# Altium integrated library Linear Technology Power Management Switching Regulator LT1074-LT8705.IntLib: 2252 symbols (part 141 of 148)
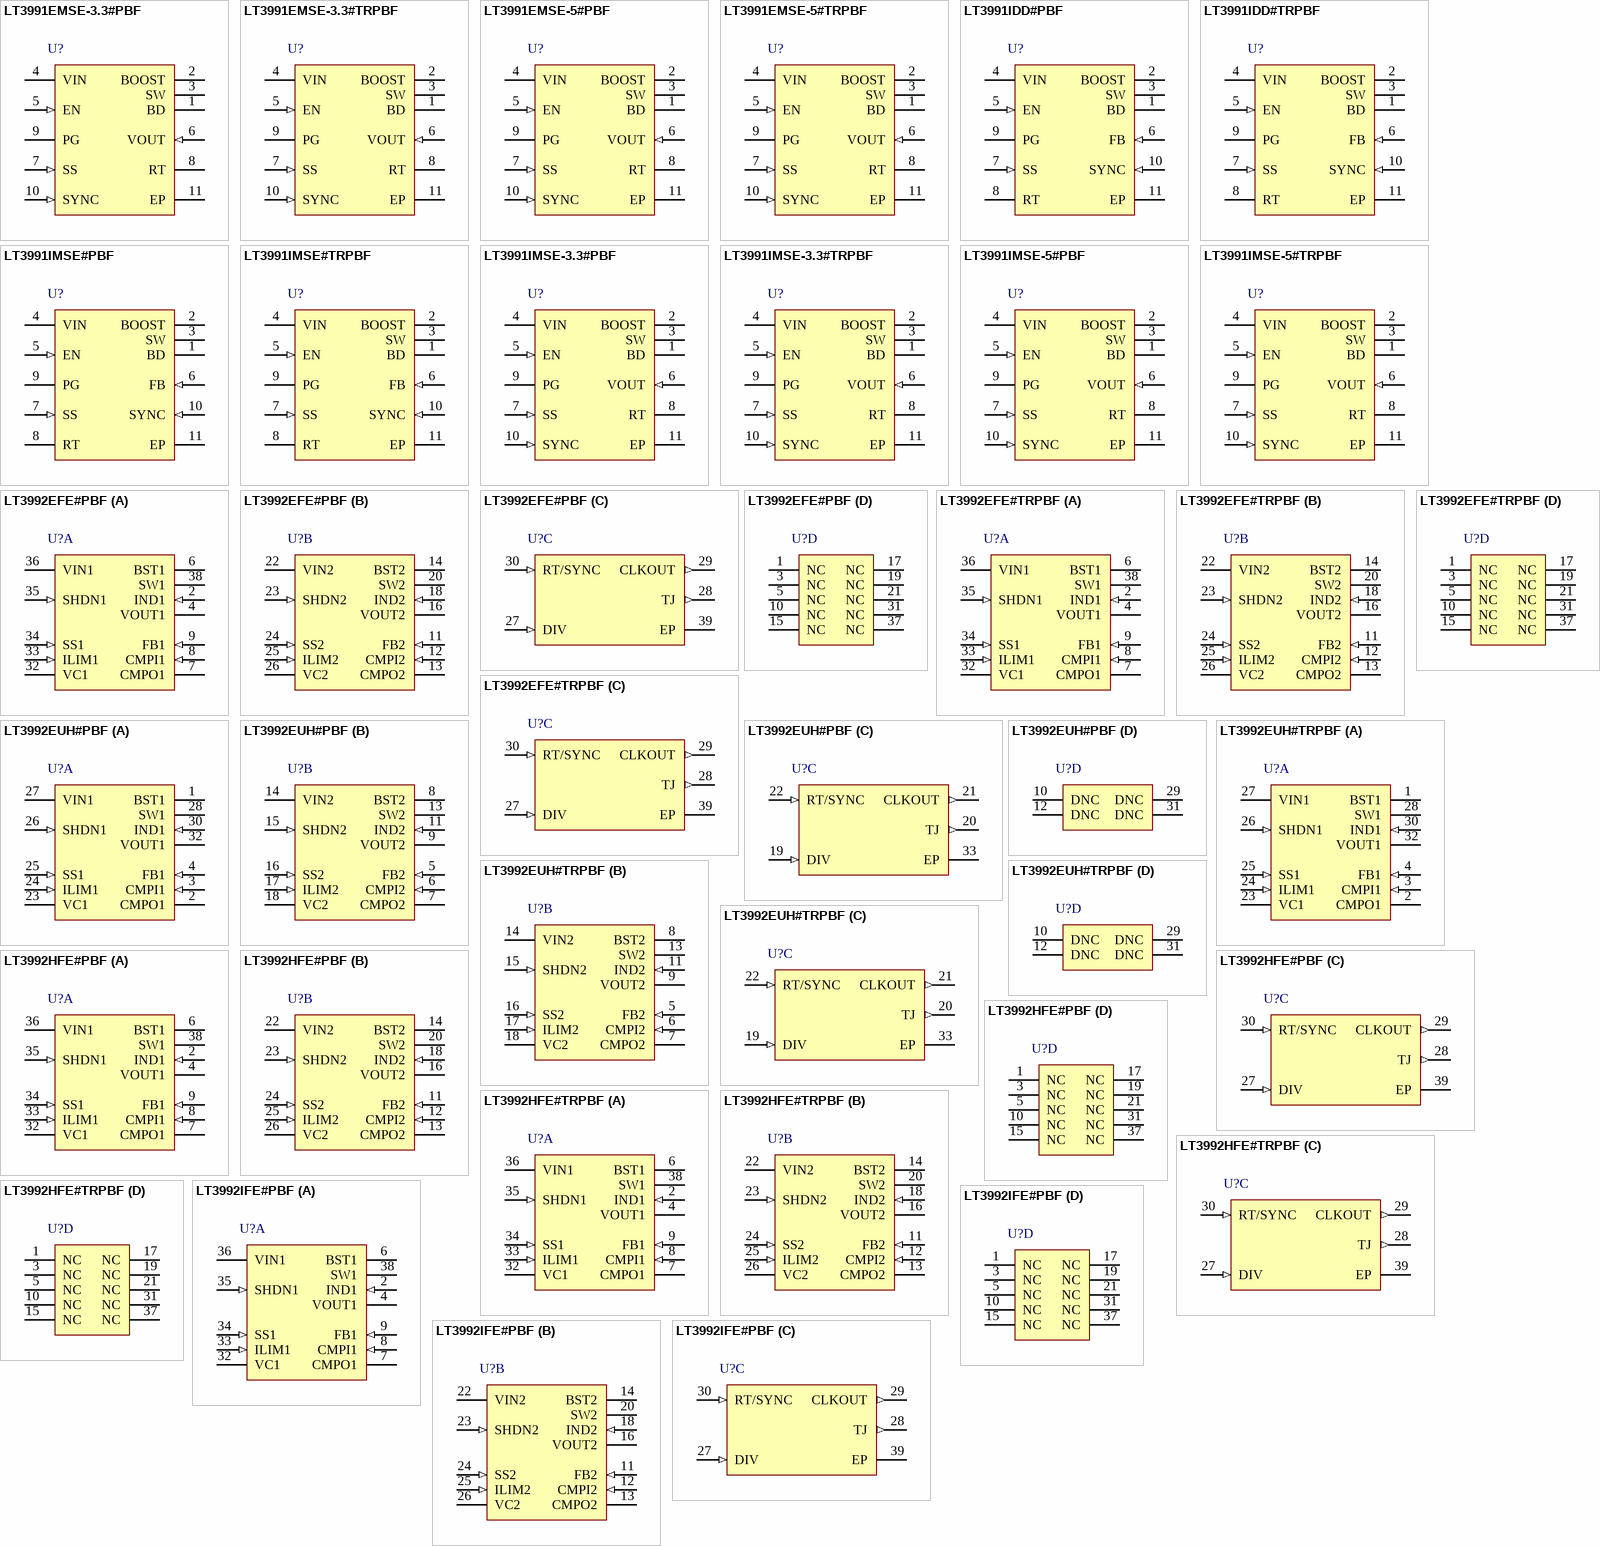
[diagram p211: symbols LT3991EMSE-3.3#PBF to LT3992IFE#PBF]

## LT3991EMSE-3.3#PBF
designator U?
1.2 A Step-Down Regulator with 2.8 uA Quiescent Current, 10-pin SOP (MSE-10-EDP), -40 to 125 degC, Pb-Free; Manufacturer: Linear Technology; PartNumber: LT3991EMSE-3.3#PBF; Frequency Adjust Range: 200kHz - 2MHz; Number of Outputs: 1; DatasheetVersion: Rev. A; PackageVersion: Rev. I, 05/2013; PackageReference: MSE-10; PackageDescription: 10-Pin Plastic MSOP, Exposed Die Pad, Body 3 x 3 mm, Pitch 0.5 mm; Supplier 1: Digi-Key; Supplier Part Number 1: LT3991EMSE-3.3#PBF-ND; Supplier 2: Farnell; Supplier Part Number 2: 1867530; Supplier 3: Newark; Supplier Part Number 3: 24T2758; RoHS: TRUE; Mounting Technology: Surface Mount; ComponentLink1Description: Manufacturer URL; ComponentLink1URL: http://www.linear.com/; ComponentLink2Description: Datasheet; ComponentLink2URL: http://cds.linear.com/docs/en/datasheet/3991fa.pdf; ComponentLink3Description: Package Specification; ComponentLink3URL: http://cds.linear.com/docs/en/packaging/05081664_I_MSE.pdf
footprint LT-MSE-10-EDP_N (SOP, 10-Leads, Body 3.1x3.1mm, Pitch 0.5mm, Thermal Pad 1.88x1.68mm, IPC Medium Density)
footprint LT-MSE-10-EDP_L (SOP, 10-Leads, Body 3.1x3.1mm, Pitch 0.5mm, Thermal Pad 1.88x1.68mm, IPC High Density)
footprint LT-MSE-10-EDP_M (SOP, 10-Leads, Body 3.1x3.1mm, Pitch 0.5mm, Thermal Pad 1.88x1.68mm, IPC Low Density)
pins: 1 BD (power) "This pin connects to the anode of the boost diode. The BD pin is normally connected to the output.", 2 BOOST "This pin is used to provide a drive voltage, higher than the input voltage, to the internal bipolar NPN power switch.", 3 SW (power) "The SW pin is the output of an internal power switch. Connect this pin to the inductor, catch diode, and boost capacitor.", 4 VIN (power) "The VIN pin supplies current to the LT3991’s internal circuitry and to the internal power switch. This pin must be locally bypassed.", 5 EN (in) "The part is in shutdown when this pin is low and active when this pin is high. The hysteretic threshold voltage is 1.005V going up and 0.975V going down. The EN threshold is only accurate when VIN is above 4.3V. If VIN is (See Datasheet)", 6 VOUT (in) "The LT3991- 3.3 and LT3991-5 regulate the VOUT pin to 3.3V and 5V respectively. This pin connects to the internal 10Mohm feedback divider that programs the fixed output voltage.", 7 SS (in) "A capacitor and a series resistor are tied between SS and ground to slowly ramp up the peak current limit of the LT3991 on start-up. The soft-start capacitor is only actively discharged when EN is low. The SS pin is released (See Datasheet)", 8 RT "A resistor is tied between RT and ground to set the switching frequency.", 9 PG (oc) "The PG pin is the open-drain output of an internal comparator. PGOOD remains low until the FB pin is within 9% of the final regulation voltage. PGOOD is valid when the LT3991 is enabled and VIN is above 4.3V", 10 SYNC (in) "This is the external clock synchronization input. Ground this pin for low ripple Burst Mode operation at low output loads. Tie to a clock source for synchronization, which will include pulse-skipping at low output loads. (See Datasheet)", 11 EP (power) "Ground. The exposed pad must be soldered to PCB."

## LT3991EMSE-3.3#TRPBF
designator U?
1.2 A Step-Down Regulator with 2.8 uA Quiescent Current, 10-pin SOP (MSE-10-EDP), -40 to 125 degC, Pb-Free, Tape and Reel; Manufacturer: Linear Technology; PartNumber: LT3991EMSE-3.3#TRPBF; Frequency Adjust Range: 200kHz - 2MHz; Number of Outputs: 1; DatasheetVersion: Rev. A; PackageVersion: Rev. I, 05/2013; PackageReference: MSE-10; PackageDescription: 10-Pin Plastic MSOP, Exposed Die Pad, Body 3 x 3 mm, Pitch 0.5 mm; Supplier 1: Digi-Key; Supplier Part Number 1: LT3991EMSE-3.3#TRPBF-ND; Packing: Tape and Reel; RoHS: TRUE; Mounting Technology: Surface Mount; ComponentLink1Description: Manufacturer URL; ComponentLink1URL: http://www.linear.com/; ComponentLink2Description: Datasheet; ComponentLink2URL: http://cds.linear.com/docs/en/datasheet/3991fa.pdf; ComponentLink3Description: Package Specification; ComponentLink3URL: http://cds.linear.com/docs/en/packaging/05081664_I_MSE.pdf
footprint LT-MSE-10-EDP_N (SOP, 10-Leads, Body 3.1x3.1mm, Pitch 0.5mm, Thermal Pad 1.88x1.68mm, IPC Medium Density)
footprint LT-MSE-10-EDP_L (SOP, 10-Leads, Body 3.1x3.1mm, Pitch 0.5mm, Thermal Pad 1.88x1.68mm, IPC High Density)
footprint LT-MSE-10-EDP_M (SOP, 10-Leads, Body 3.1x3.1mm, Pitch 0.5mm, Thermal Pad 1.88x1.68mm, IPC Low Density)
pins: 1 BD (power) "This pin connects to the anode of the boost diode. The BD pin is normally connected to the output.", 2 BOOST "This pin is used to provide a drive voltage, higher than the input voltage, to the internal bipolar NPN power switch.", 3 SW (power) "The SW pin is the output of an internal power switch. Connect this pin to the inductor, catch diode, and boost capacitor.", 4 VIN (power) "The VIN pin supplies current to the LT3991’s internal circuitry and to the internal power switch. This pin must be locally bypassed.", 5 EN (in) "The part is in shutdown when this pin is low and active when this pin is high. The hysteretic threshold voltage is 1.005V going up and 0.975V going down. The EN threshold is only accurate when VIN is above 4.3V. If VIN is (See Datasheet)", 6 VOUT (in) "The LT3991- 3.3 and LT3991-5 regulate the VOUT pin to 3.3V and 5V respectively. This pin connects to the internal 10Mohm feedback divider that programs the fixed output voltage.", 7 SS (in) "A capacitor and a series resistor are tied between SS and ground to slowly ramp up the peak current limit of the LT3991 on start-up. The soft-start capacitor is only actively discharged when EN is low. The SS pin is released (See Datasheet)", 8 RT "A resistor is tied between RT and ground to set the switching frequency.", 9 PG (oc) "The PG pin is the open-drain output of an internal comparator. PGOOD remains low until the FB pin is within 9% of the final regulation voltage. PGOOD is valid when the LT3991 is enabled and VIN is above 4.3V", 10 SYNC (in) "This is the external clock synchronization input. Ground this pin for low ripple Burst Mode operation at low output loads. Tie to a clock source for synchronization, which will include pulse-skipping at low output loads. (See Datasheet)", 11 EP (power) "Ground. The exposed pad must be soldered to PCB."

## LT3991EMSE-5#PBF
designator U?
1.2 A Step-Down Regulator with 2.8 uA Quiescent Current, 10-pin SOP (MSE-10-EDP), -40 to 125 degC, Pb-Free; Manufacturer: Linear Technology; PartNumber: LT3991EMSE-5#PBF; Frequency Adjust Range: 200kHz - 2MHz; Number of Outputs: 1; DatasheetVersion: Rev. A; PackageVersion: Rev. I, 05/2013; PackageReference: MSE-10; PackageDescription: 10-Pin Plastic MSOP, Exposed Die Pad, Body 3 x 3 mm, Pitch 0.5 mm; Supplier 1: Digi-Key; Supplier Part Number 1: LT3991EMSE-5#PBF-ND; Supplier 2: Farnell; Supplier Part Number 2: 2115867; Supplier 3: Newark; Supplier Part Number 3: 24T2759; RoHS: TRUE; Mounting Technology: Surface Mount; ComponentLink1Description: Manufacturer URL; ComponentLink1URL: http://www.linear.com/; ComponentLink2Description: Datasheet; ComponentLink2URL: http://cds.linear.com/docs/en/datasheet/3991fa.pdf; ComponentLink3Description: Package Specification; ComponentLink3URL: http://cds.linear.com/docs/en/packaging/05081664_I_MSE.pdf
footprint LT-MSE-10-EDP_N (SOP, 10-Leads, Body 3.1x3.1mm, Pitch 0.5mm, Thermal Pad 1.88x1.68mm, IPC Medium Density)
footprint LT-MSE-10-EDP_L (SOP, 10-Leads, Body 3.1x3.1mm, Pitch 0.5mm, Thermal Pad 1.88x1.68mm, IPC High Density)
footprint LT-MSE-10-EDP_M (SOP, 10-Leads, Body 3.1x3.1mm, Pitch 0.5mm, Thermal Pad 1.88x1.68mm, IPC Low Density)
pins: 1 BD (power) "This pin connects to the anode of the boost diode. The BD pin is normally connected to the output.", 2 BOOST "This pin is used to provide a drive voltage, higher than the input voltage, to the internal bipolar NPN power switch.", 3 SW (power) "The SW pin is the output of an internal power switch. Connect this pin to the inductor, catch diode, and boost capacitor.", 4 VIN (power) "The VIN pin supplies current to the LT3991’s internal circuitry and to the internal power switch. This pin must be locally bypassed.", 5 EN (in) "The part is in shutdown when this pin is low and active when this pin is high. The hysteretic threshold voltage is 1.005V going up and 0.975V going down. The EN threshold is only accurate when VIN is above 4.3V. If VIN is (See Datasheet)", 6 VOUT (in) "The LT3991- 3.3 and LT3991-5 regulate the VOUT pin to 3.3V and 5V respectively. This pin connects to the internal 10Mohm feedback divider that programs the fixed output voltage.", 7 SS (in) "A capacitor and a series resistor are tied between SS and ground to slowly ramp up the peak current limit of the LT3991 on start-up. The soft-start capacitor is only actively discharged when EN is low. The SS pin is released (See Datasheet)", 8 RT "A resistor is tied between RT and ground to set the switching frequency.", 9 PG (oc) "The PG pin is the open-drain output of an internal comparator. PGOOD remains low until the FB pin is within 9% of the final regulation voltage. PGOOD is valid when the LT3991 is enabled and VIN is above 4.3V", 10 SYNC (in) "This is the external clock synchronization input. Ground this pin for low ripple Burst Mode operation at low output loads. Tie to a clock source for synchronization, which will include pulse-skipping at low output loads. (See Datasheet)", 11 EP (power) "Ground. The exposed pad must be soldered to PCB."

## LT3991EMSE-5#TRPBF
designator U?
1.2 A Step-Down Regulator with 2.8 uA Quiescent Current, 10-pin SOP (MSE-10-EDP), -40 to 125 degC, Pb-Free, Tape and Reel; Manufacturer: Linear Technology; PartNumber: LT3991EMSE-5#TRPBF; Frequency Adjust Range: 200kHz - 2MHz; Number of Outputs: 1; DatasheetVersion: Rev. A; PackageVersion: Rev. I, 05/2013; PackageReference: MSE-10; PackageDescription: 10-Pin Plastic MSOP, Exposed Die Pad, Body 3 x 3 mm, Pitch 0.5 mm; Supplier 1: Digi-Key; Supplier Part Number 1: LT3991EMSE-5#TRPBF-ND; Packing: Tape and Reel; RoHS: TRUE; Mounting Technology: Surface Mount; ComponentLink1Description: Manufacturer URL; ComponentLink1URL: http://www.linear.com/; ComponentLink2Description: Datasheet; ComponentLink2URL: http://cds.linear.com/docs/en/datasheet/3991fa.pdf; ComponentLink3Description: Package Specification; ComponentLink3URL: http://cds.linear.com/docs/en/packaging/05081664_I_MSE.pdf
footprint LT-MSE-10-EDP_N (SOP, 10-Leads, Body 3.1x3.1mm, Pitch 0.5mm, Thermal Pad 1.88x1.68mm, IPC Medium Density)
footprint LT-MSE-10-EDP_L (SOP, 10-Leads, Body 3.1x3.1mm, Pitch 0.5mm, Thermal Pad 1.88x1.68mm, IPC High Density)
footprint LT-MSE-10-EDP_M (SOP, 10-Leads, Body 3.1x3.1mm, Pitch 0.5mm, Thermal Pad 1.88x1.68mm, IPC Low Density)
pins: 1 BD (power) "This pin connects to the anode of the boost diode. The BD pin is normally connected to the output.", 2 BOOST "This pin is used to provide a drive voltage, higher than the input voltage, to the internal bipolar NPN power switch.", 3 SW (power) "The SW pin is the output of an internal power switch. Connect this pin to the inductor, catch diode, and boost capacitor.", 4 VIN (power) "The VIN pin supplies current to the LT3991’s internal circuitry and to the internal power switch. This pin must be locally bypassed.", 5 EN (in) "The part is in shutdown when this pin is low and active when this pin is high. The hysteretic threshold voltage is 1.005V going up and 0.975V going down. The EN threshold is only accurate when VIN is above 4.3V. If VIN is (See Datasheet)", 6 VOUT (in) "The LT3991- 3.3 and LT3991-5 regulate the VOUT pin to 3.3V and 5V respectively. This pin connects to the internal 10Mohm feedback divider that programs the fixed output voltage.", 7 SS (in) "A capacitor and a series resistor are tied between SS and ground to slowly ramp up the peak current limit of the LT3991 on start-up. The soft-start capacitor is only actively discharged when EN is low. The SS pin is released (See Datasheet)", 8 RT "A resistor is tied between RT and ground to set the switching frequency.", 9 PG (oc) "The PG pin is the open-drain output of an internal comparator. PGOOD remains low until the FB pin is within 9% of the final regulation voltage. PGOOD is valid when the LT3991 is enabled and VIN is above 4.3V", 10 SYNC (in) "This is the external clock synchronization input. Ground this pin for low ripple Burst Mode operation at low output loads. Tie to a clock source for synchronization, which will include pulse-skipping at low output loads. (See Datasheet)", 11 EP (power) "Ground. The exposed pad must be soldered to PCB."

## LT3991IDD#PBF
designator U?
1.2 A Step-Down Regulator with 2.8 uA Quiescent Current, 10-pin SON (DD-10), -40 to 125 degC, Pb-Free; Manufacturer: Linear Technology; PartNumber: LT3991IDD#PBF; Frequency Adjust Range: 200kHz - 2MHz; Number of Outputs: 1; DatasheetVersion: Rev. A; PackageVersion: Rev. C, 06/2010; PackageReference: DD-10; PackageDescription: 10-Pin Plastic DFN, Body 3 x 3 mm, Pitch 0.5 mm; Supplier 1: Digi-Key; Supplier Part Number 1: LT3991IDD#PBF-ND; Supplier 2: Farnell; Supplier Part Number 2: 2294972; Supplier 3: Newark; Supplier Part Number 3: 13T8607; RoHS: TRUE; Mounting Technology: Surface Mount; Code_JEDEC: MO-229; ComponentLink1Description: Manufacturer URL; ComponentLink1URL: http://www.linear.com/; ComponentLink2Description: Datasheet; ComponentLink2URL: http://cds.linear.com/docs/en/datasheet/3991fa.pdf; ComponentLink3Description: Package Specification; ComponentLink3URL: http://cds.linear.com/docs/en/packaging/DFN_10_05-08-1699.pdf
footprint LT-DD-10_V (SON, 10-Leads, Body 3x3mm, Pitch 0.5mm, Thermal Pad 2.38x1.65mm)
pins: 1 BD (power) "This pin connects to the anode of the boost diode. The BD pin is normally connected to the output.", 2 BOOST "This pin is used to provide a drive voltage, higher than the input voltage, to the internal bipolar NPN power switch.", 3 SW (power) "The SW pin is the output of an internal power switch. Connect this pin to the inductor, catch diode, and boost capacitor.", 4 VIN (power), 5 EN (in), 6 FB (in), 7 SS (in), 8 RT "A resistor is tied between RT and ground to set the switching frequency.", 9 PG (oc), 10 SYNC (in) "This is the external clock synchronization input. Ground this pin for low ripple Burst Mode operation at low output loads. Tie to a clock source for synchronization, which will include pulse-skipping at low output loads. (See Datasheet)", 11 EP (power) "Ground. The exposed pad must be soldered to PCB."

## LT3991IDD#TRPBF
designator U?
1.2 A Step-Down Regulator with 2.8 uA Quiescent Current, 10-pin SON (DD-10), -40 to 125 degC, Pb-Free, Tape and Reel; Manufacturer: Linear Technology; PartNumber: LT3991IDD#TRPBF; Frequency Adjust Range: 200kHz - 2MHz; Number of Outputs: 1; DatasheetVersion: Rev. A; PackageVersion: Rev. C, 06/2010; PackageReference: DD-10; PackageDescription: 10-Pin Plastic DFN, Body 3 x 3 mm, Pitch 0.5 mm; Supplier 1: Digi-Key; Supplier Part Number 1: LT3991IDD#TRPBF-ND; Packing: Tape and Reel; RoHS: TRUE; Mounting Technology: Surface Mount; Code_JEDEC: MO-229; ComponentLink1Description: Manufacturer URL; ComponentLink1URL: http://www.linear.com/; ComponentLink2Description: Datasheet; ComponentLink2URL: http://cds.linear.com/docs/en/datasheet/3991fa.pdf; ComponentLink3Description: Package Specification; ComponentLink3URL: http://cds.linear.com/docs/en/packaging/DFN_10_05-08-1699.pdf
footprint LT-DD-10_V (SON, 10-Leads, Body 3x3mm, Pitch 0.5mm, Thermal Pad 2.38x1.65mm)
pins: 1 BD (power) "This pin connects to the anode of the boost diode. The BD pin is normally connected to the output.", 2 BOOST "This pin is used to provide a drive voltage, higher than the input voltage, to the internal bipolar NPN power switch.", 3 SW (power) "The SW pin is the output of an internal power switch. Connect this pin to the inductor, catch diode, and boost capacitor.", 4 VIN (power), 5 EN (in), 6 FB (in), 7 SS (in), 8 RT "A resistor is tied between RT and ground to set the switching frequency.", 9 PG (oc), 10 SYNC (in) "This is the external clock synchronization input. Ground this pin for low ripple Burst Mode operation at low output loads. Tie to a clock source for synchronization, which will include pulse-skipping at low output loads. (See Datasheet)", 11 EP (power) "Ground. The exposed pad must be soldered to PCB."

## LT3991IMSE#PBF
designator U?
1.2 A Step-Down Regulator with 2.8 uA Quiescent Current, 10-pin SOP (MSE-10-EDP), -40 to 125 degC, Pb-Free; Manufacturer: Linear Technology; PartNumber: LT3991IMSE#PBF; Frequency Adjust Range: 200kHz - 2MHz; Number of Outputs: 1; DatasheetVersion: Rev. A; PackageVersion: Rev. I, 05/2013; PackageReference: MSE-10; PackageDescription: 10-Pin Plastic MSOP, Exposed Die Pad, Body 3 x 3 mm, Pitch 0.5 mm; Supplier 1: Digi-Key; Supplier Part Number 1: LT3991IMSE#PBF-ND; Supplier 2: Newark; Supplier Part Number 2: 13T8609; RoHS: TRUE; Mounting Technology: Surface Mount; ComponentLink1Description: Manufacturer URL; ComponentLink1URL: http://www.linear.com/; ComponentLink2Description: Datasheet; ComponentLink2URL: http://cds.linear.com/docs/en/datasheet/3991fa.pdf; ComponentLink3Description: Package Specification; ComponentLink3URL: http://cds.linear.com/docs/en/packaging/05081664_I_MSE.pdf
footprint LT-MSE-10-EDP_N (SOP, 10-Leads, Body 3.1x3.1mm, Pitch 0.5mm, Thermal Pad 1.88x1.68mm, IPC Medium Density)
footprint LT-MSE-10-EDP_L (SOP, 10-Leads, Body 3.1x3.1mm, Pitch 0.5mm, Thermal Pad 1.88x1.68mm, IPC High Density)
footprint LT-MSE-10-EDP_M (SOP, 10-Leads, Body 3.1x3.1mm, Pitch 0.5mm, Thermal Pad 1.88x1.68mm, IPC Low Density)
pins: 1 BD (power) "This pin connects to the anode of the boost diode. The BD pin is normally connected to the output.", 2 BOOST "This pin is used to provide a drive voltage, higher than the input voltage, to the internal bipolar NPN power switch.", 3 SW (power) "The SW pin is the output of an internal power switch. Connect this pin to the inductor, catch diode, and boost capacitor.", 4 VIN (power), 5 EN (in), 6 FB (in), 7 SS (in), 8 RT "A resistor is tied between RT and ground to set the switching frequency.", 9 PG (oc), 10 SYNC (in) "This is the external clock synchronization input. Ground this pin for low ripple Burst Mode operation at low output loads. Tie to a clock source for synchronization, which will include pulse-skipping at low output loads. (See Datasheet)", 11 EP (power) "Ground. The exposed pad must be soldered to PCB."

## LT3991IMSE#TRPBF
designator U?
1.2 A Step-Down Regulator with 2.8 uA Quiescent Current, 10-pin SOP (MSE-10-EDP), -40 to 125 degC, Pb-Free, Tape and Reel; Manufacturer: Linear Technology; PartNumber: LT3991IMSE#TRPBF; Frequency Adjust Range: 200kHz - 2MHz; Number of Outputs: 1; DatasheetVersion: Rev. A; PackageVersion: Rev. I, 05/2013; PackageReference: MSE-10; PackageDescription: 10-Pin Plastic MSOP, Exposed Die Pad, Body 3 x 3 mm, Pitch 0.5 mm; Supplier 1: Digi-Key; Supplier Part Number 1: LT3991IMSE#TRPBF-ND; Packing: Tape and Reel; RoHS: TRUE; Mounting Technology: Surface Mount; ComponentLink1Description: Manufacturer URL; ComponentLink1URL: http://www.linear.com/; ComponentLink2Description: Datasheet; ComponentLink2URL: http://cds.linear.com/docs/en/datasheet/3991fa.pdf; ComponentLink3Description: Package Specification; ComponentLink3URL: http://cds.linear.com/docs/en/packaging/05081664_I_MSE.pdf
footprint LT-MSE-10-EDP_N (SOP, 10-Leads, Body 3.1x3.1mm, Pitch 0.5mm, Thermal Pad 1.88x1.68mm, IPC Medium Density)
footprint LT-MSE-10-EDP_L (SOP, 10-Leads, Body 3.1x3.1mm, Pitch 0.5mm, Thermal Pad 1.88x1.68mm, IPC High Density)
footprint LT-MSE-10-EDP_M (SOP, 10-Leads, Body 3.1x3.1mm, Pitch 0.5mm, Thermal Pad 1.88x1.68mm, IPC Low Density)
pins: 1 BD (power) "This pin connects to the anode of the boost diode. The BD pin is normally connected to the output.", 2 BOOST "This pin is used to provide a drive voltage, higher than the input voltage, to the internal bipolar NPN power switch.", 3 SW (power) "The SW pin is the output of an internal power switch. Connect this pin to the inductor, catch diode, and boost capacitor.", 4 VIN (power), 5 EN (in), 6 FB (in), 7 SS (in), 8 RT "A resistor is tied between RT and ground to set the switching frequency.", 9 PG (oc), 10 SYNC (in) "This is the external clock synchronization input. Ground this pin for low ripple Burst Mode operation at low output loads. Tie to a clock source for synchronization, which will include pulse-skipping at low output loads. (See Datasheet)", 11 EP (power) "Ground. The exposed pad must be soldered to PCB."

## LT3991IMSE-3.3#PBF
designator U?
1.2 A Step-Down Regulator with 2.8 uA Quiescent Current, 10-pin SOP (MSE-10-EDP), -40 to 125 degC, Pb-Free; Manufacturer: Linear Technology; PartNumber: LT3991IMSE-3.3#PBF; Frequency Adjust Range: 200kHz - 2MHz; Number of Outputs: 1; DatasheetVersion: Rev. A; PackageVersion: Rev. I, 05/2013; PackageReference: MSE-10; PackageDescription: 10-Pin Plastic MSOP, Exposed Die Pad, Body 3 x 3 mm, Pitch 0.5 mm; Supplier 1: Digi-Key; Supplier Part Number 1: LT3991IMSE-3.3#PBF-ND; Supplier 2: Newark; Supplier Part Number 2: 27T2131; RoHS: TRUE; Mounting Technology: Surface Mount; ComponentLink1Description: Manufacturer URL; ComponentLink1URL: http://www.linear.com/; ComponentLink2Description: Datasheet; ComponentLink2URL: http://cds.linear.com/docs/en/datasheet/3991fa.pdf; ComponentLink3Description: Package Specification; ComponentLink3URL: http://cds.linear.com/docs/en/packaging/05081664_I_MSE.pdf
footprint LT-MSE-10-EDP_N (SOP, 10-Leads, Body 3.1x3.1mm, Pitch 0.5mm, Thermal Pad 1.88x1.68mm, IPC Medium Density)
footprint LT-MSE-10-EDP_L (SOP, 10-Leads, Body 3.1x3.1mm, Pitch 0.5mm, Thermal Pad 1.88x1.68mm, IPC High Density)
footprint LT-MSE-10-EDP_M (SOP, 10-Leads, Body 3.1x3.1mm, Pitch 0.5mm, Thermal Pad 1.88x1.68mm, IPC Low Density)
pins: 1 BD (power) "This pin connects to the anode of the boost diode. The BD pin is normally connected to the output.", 2 BOOST "This pin is used to provide a drive voltage, higher than the input voltage, to the internal bipolar NPN power switch.", 3 SW (power) "The SW pin is the output of an internal power switch. Connect this pin to the inductor, catch diode, and boost capacitor.", 4 VIN (power) "The VIN pin supplies current to the LT3991’s internal circuitry and to the internal power switch. This pin must be locally bypassed.", 5 EN (in) "The part is in shutdown when this pin is low and active when this pin is high. The hysteretic threshold voltage is 1.005V going up and 0.975V going down. The EN threshold is only accurate when VIN is above 4.3V. If VIN is (See Datasheet)", 6 VOUT (in) "The LT3991- 3.3 and LT3991-5 regulate the VOUT pin to 3.3V and 5V respectively. This pin connects to the internal 10Mohm feedback divider that programs the fixed output voltage.", 7 SS (in) "A capacitor and a series resistor are tied between SS and ground to slowly ramp up the peak current limit of the LT3991 on start-up. The soft-start capacitor is only actively discharged when EN is low. The SS pin is released (See Datasheet)", 8 RT "A resistor is tied between RT and ground to set the switching frequency.", 9 PG (oc) "The PG pin is the open-drain output of an internal comparator. PGOOD remains low until the FB pin is within 9% of the final regulation voltage. PGOOD is valid when the LT3991 is enabled and VIN is above 4.3V", 10 SYNC (in) "This is the external clock synchronization input. Ground this pin for low ripple Burst Mode operation at low output loads. Tie to a clock source for synchronization, which will include pulse-skipping at low output loads. (See Datasheet)", 11 EP (power) "Ground. The exposed pad must be soldered to PCB."

## LT3991IMSE-3.3#TRPBF
designator U?
1.2 A Step-Down Regulator with 2.8 uA Quiescent Current, 10-pin SOP (MSE-10-EDP), -40 to 125 degC, Pb-Free, Tape and Reel; Manufacturer: Linear Technology; PartNumber: LT3991IMSE-3.3#TRPBF; Frequency Adjust Range: 200kHz - 2MHz; Number of Outputs: 1; DatasheetVersion: Rev. A; PackageVersion: Rev. I, 05/2013; PackageReference: MSE-10; PackageDescription: 10-Pin Plastic MSOP, Exposed Die Pad, Body 3 x 3 mm, Pitch 0.5 mm; Supplier 1: Digi-Key; Supplier Part Number 1: LT3991IMSE-3.3#TRPBF-ND; Supplier 2: Newark; Supplier Part Number 2: 59T5845; Packing: Tape and Reel; RoHS: TRUE; Mounting Technology: Surface Mount; ComponentLink1Description: Manufacturer URL; ComponentLink1URL: http://www.linear.com/; ComponentLink2Description: Datasheet; ComponentLink2URL: http://cds.linear.com/docs/en/datasheet/3991fa.pdf; ComponentLink3Description: Package Specification; ComponentLink3URL: http://cds.linear.com/docs/en/packaging/05081664_I_MSE.pdf
footprint LT-MSE-10-EDP_N (SOP, 10-Leads, Body 3.1x3.1mm, Pitch 0.5mm, Thermal Pad 1.88x1.68mm, IPC Medium Density)
footprint LT-MSE-10-EDP_L (SOP, 10-Leads, Body 3.1x3.1mm, Pitch 0.5mm, Thermal Pad 1.88x1.68mm, IPC High Density)
footprint LT-MSE-10-EDP_M (SOP, 10-Leads, Body 3.1x3.1mm, Pitch 0.5mm, Thermal Pad 1.88x1.68mm, IPC Low Density)
pins: 1 BD (power) "This pin connects to the anode of the boost diode. The BD pin is normally connected to the output.", 2 BOOST "This pin is used to provide a drive voltage, higher than the input voltage, to the internal bipolar NPN power switch.", 3 SW (power) "The SW pin is the output of an internal power switch. Connect this pin to the inductor, catch diode, and boost capacitor.", 4 VIN (power) "The VIN pin supplies current to the LT3991’s internal circuitry and to the internal power switch. This pin must be locally bypassed.", 5 EN (in) "The part is in shutdown when this pin is low and active when this pin is high. The hysteretic threshold voltage is 1.005V going up and 0.975V going down. The EN threshold is only accurate when VIN is above 4.3V. If VIN is (See Datasheet)", 6 VOUT (in) "The LT3991- 3.3 and LT3991-5 regulate the VOUT pin to 3.3V and 5V respectively. This pin connects to the internal 10Mohm feedback divider that programs the fixed output voltage.", 7 SS (in) "A capacitor and a series resistor are tied between SS and ground to slowly ramp up the peak current limit of the LT3991 on start-up. The soft-start capacitor is only actively discharged when EN is low. The SS pin is released (See Datasheet)", 8 RT "A resistor is tied between RT and ground to set the switching frequency.", 9 PG (oc) "The PG pin is the open-drain output of an internal comparator. PGOOD remains low until the FB pin is within 9% of the final regulation voltage. PGOOD is valid when the LT3991 is enabled and VIN is above 4.3V", 10 SYNC (in) "This is the external clock synchronization input. Ground this pin for low ripple Burst Mode operation at low output loads. Tie to a clock source for synchronization, which will include pulse-skipping at low output loads. (See Datasheet)", 11 EP (power) "Ground. The exposed pad must be soldered to PCB."

## LT3991IMSE-5#PBF
designator U?
1.2 A Step-Down Regulator with 2.8 uA Quiescent Current, 10-pin SOP (MSE-10-EDP), -40 to 125 degC, Pb-Free; Manufacturer: Linear Technology; PartNumber: LT3991IMSE-5#PBF; Frequency Adjust Range: 200kHz - 2MHz; Number of Outputs: 1; DatasheetVersion: Rev. A; PackageVersion: Rev. I, 05/2013; PackageReference: MSE-10; PackageDescription: 10-Pin Plastic MSOP, Exposed Die Pad, Body 3 x 3 mm, Pitch 0.5 mm; Supplier 1: Digi-Key; Supplier Part Number 1: LT3991IMSE-5#PBF-ND; Supplier 2: Newark; Supplier Part Number 2: 58T8393; RoHS: TRUE; Mounting Technology: Surface Mount; ComponentLink1Description: Manufacturer URL; ComponentLink1URL: http://www.linear.com/; ComponentLink2Description: Datasheet; ComponentLink2URL: http://cds.linear.com/docs/en/datasheet/3991fa.pdf; ComponentLink3Description: Package Specification; ComponentLink3URL: http://cds.linear.com/docs/en/packaging/05081664_I_MSE.pdf
footprint LT-MSE-10-EDP_N (SOP, 10-Leads, Body 3.1x3.1mm, Pitch 0.5mm, Thermal Pad 1.88x1.68mm, IPC Medium Density)
footprint LT-MSE-10-EDP_L (SOP, 10-Leads, Body 3.1x3.1mm, Pitch 0.5mm, Thermal Pad 1.88x1.68mm, IPC High Density)
footprint LT-MSE-10-EDP_M (SOP, 10-Leads, Body 3.1x3.1mm, Pitch 0.5mm, Thermal Pad 1.88x1.68mm, IPC Low Density)
pins: 1 BD (power) "This pin connects to the anode of the boost diode. The BD pin is normally connected to the output.", 2 BOOST "This pin is used to provide a drive voltage, higher than the input voltage, to the internal bipolar NPN power switch.", 3 SW (power) "The SW pin is the output of an internal power switch. Connect this pin to the inductor, catch diode, and boost capacitor.", 4 VIN (power) "The VIN pin supplies current to the LT3991’s internal circuitry and to the internal power switch. This pin must be locally bypassed.", 5 EN (in) "The part is in shutdown when this pin is low and active when this pin is high. The hysteretic threshold voltage is 1.005V going up and 0.975V going down. The EN threshold is only accurate when VIN is above 4.3V. If VIN is (See Datasheet)", 6 VOUT (in) "The LT3991- 3.3 and LT3991-5 regulate the VOUT pin to 3.3V and 5V respectively. This pin connects to the internal 10Mohm feedback divider that programs the fixed output voltage.", 7 SS (in) "A capacitor and a series resistor are tied between SS and ground to slowly ramp up the peak current limit of the LT3991 on start-up. The soft-start capacitor is only actively discharged when EN is low. The SS pin is released (See Datasheet)", 8 RT "A resistor is tied between RT and ground to set the switching frequency.", 9 PG (oc) "The PG pin is the open-drain output of an internal comparator. PGOOD remains low until the FB pin is within 9% of the final regulation voltage. PGOOD is valid when the LT3991 is enabled and VIN is above 4.3V", 10 SYNC (in) "This is the external clock synchronization input. Ground this pin for low ripple Burst Mode operation at low output loads. Tie to a clock source for synchronization, which will include pulse-skipping at low output loads. (See Datasheet)", 11 EP (power) "Ground. The exposed pad must be soldered to PCB."

## LT3991IMSE-5#TRPBF
designator U?
1.2 A Step-Down Regulator with 2.8 uA Quiescent Current, 10-pin SOP (MSE-10-EDP), -40 to 125 degC, Pb-Free, Tape and Reel; Manufacturer: Linear Technology; PartNumber: LT3991IMSE-5#TRPBF; Frequency Adjust Range: 200kHz - 2MHz; Number of Outputs: 1; DatasheetVersion: Rev. A; PackageVersion: Rev. I, 05/2013; PackageReference: MSE-10; PackageDescription: 10-Pin Plastic MSOP, Exposed Die Pad, Body 3 x 3 mm, Pitch 0.5 mm; Supplier 1: Digi-Key; Supplier Part Number 1: LT3991IMSE-5#TRPBF-ND; Supplier 2: Newark; Supplier Part Number 2: 59T5846; Packing: Tape and Reel; RoHS: TRUE; Mounting Technology: Surface Mount; ComponentLink1Description: Manufacturer URL; ComponentLink1URL: http://www.linear.com/; ComponentLink2Description: Datasheet; ComponentLink2URL: http://cds.linear.com/docs/en/datasheet/3991fa.pdf; ComponentLink3Description: Package Specification; ComponentLink3URL: http://cds.linear.com/docs/en/packaging/05081664_I_MSE.pdf
footprint LT-MSE-10-EDP_N (SOP, 10-Leads, Body 3.1x3.1mm, Pitch 0.5mm, Thermal Pad 1.88x1.68mm, IPC Medium Density)
footprint LT-MSE-10-EDP_L (SOP, 10-Leads, Body 3.1x3.1mm, Pitch 0.5mm, Thermal Pad 1.88x1.68mm, IPC High Density)
footprint LT-MSE-10-EDP_M (SOP, 10-Leads, Body 3.1x3.1mm, Pitch 0.5mm, Thermal Pad 1.88x1.68mm, IPC Low Density)
pins: 1 BD (power) "This pin connects to the anode of the boost diode. The BD pin is normally connected to the output.", 2 BOOST "This pin is used to provide a drive voltage, higher than the input voltage, to the internal bipolar NPN power switch.", 3 SW (power) "The SW pin is the output of an internal power switch. Connect this pin to the inductor, catch diode, and boost capacitor.", 4 VIN (power) "The VIN pin supplies current to the LT3991’s internal circuitry and to the internal power switch. This pin must be locally bypassed.", 5 EN (in) "The part is in shutdown when this pin is low and active when this pin is high. The hysteretic threshold voltage is 1.005V going up and 0.975V going down. The EN threshold is only accurate when VIN is above 4.3V. If VIN is (See Datasheet)", 6 VOUT (in) "The LT3991- 3.3 and LT3991-5 regulate the VOUT pin to 3.3V and 5V respectively. This pin connects to the internal 10Mohm feedback divider that programs the fixed output voltage.", 7 SS (in) "A capacitor and a series resistor are tied between SS and ground to slowly ramp up the peak current limit of the LT3991 on start-up. The soft-start capacitor is only actively discharged when EN is low. The SS pin is released (See Datasheet)", 8 RT "A resistor is tied between RT and ground to set the switching frequency.", 9 PG (oc) "The PG pin is the open-drain output of an internal comparator. PGOOD remains low until the FB pin is within 9% of the final regulation voltage. PGOOD is valid when the LT3991 is enabled and VIN is above 4.3V", 10 SYNC (in) "This is the external clock synchronization input. Ground this pin for low ripple Burst Mode operation at low output loads. Tie to a clock source for synchronization, which will include pulse-skipping at low output loads. (See Datasheet)", 11 EP (power) "Ground. The exposed pad must be soldered to PCB."

## LT3992EFE#PBF
designator U?
Monolithic Dual Tracking 3 A Step-Down Switching Regulator, 38-pin SOP (FE-38-EPV-AA), -40 to 125 degC, Pb-Free; Manufacturer: Linear Technology; PartNumber: LT3992EFE#PBF; Frequency Adjust Range: 250kHz - 2MHz; Number of Outputs: 2; DatasheetVersion: Rev. A; PackageVersion: Rev. C, 09/2010; PackageReference: FE-38; PackageDescription: 38-Pin Plastic TSSOP, Body 9.7 x 4.4 mm, Pitch 0.5 mm; Supplier 1: Digi-Key; Supplier Part Number 1: LT3992EFE#PBF-ND; Supplier 2: Newark; Supplier Part Number 2: 87T9245; RoHS: TRUE; Mounting Technology: Surface Mount; ComponentLink1Description: Manufacturer URL; ComponentLink1URL: http://www.linear.com/; ComponentLink2Description: Datasheet; ComponentLink2URL: http://cds.linear.com/docs/en/datasheet/3992fa.pdf; ComponentLink3Description: Package Specification; ComponentLink3URL: http://cds.linear.com/docs/en/packaging/TSSOP_38_05-08-1772.pdf
footprint LT-FE-38-EPV-AA_N (SOP, 38-Leads, Body 9.8x4.5mm, Pitch 0.5mm, Thermal Pad 4.75x2.74mm, IPC Medium Density)
footprint LT-FE-38-EPV-AA_L (SOP, 38-Leads, Body 9.8x4.5mm, Pitch 0.5mm, Thermal Pad 4.75x2.74mm, IPC High Density)
footprint LT-FE-38-EPV-AA_M (SOP, 38-Leads, Body 9.8x4.5mm, Pitch 0.5mm, Thermal Pad 4.75x2.74mm, IPC Low Density)
part A pins: 2 IND1 (in) "The IND pin is the input to the internal sense resistor that measures current flowing in the inductor. When the current in the resistor exceeds the current dictated by the VC pin, the SW latch is held in reset, disabling the (See Datasheet)", 4 VOUT1 (power) "The VOUT pin is the output to the internal sense resistor that measures current flowing in the inductor. When the current in the resistor exceeds the current dictated by the VC pin, the SW latch is held in reset disabling (See Datasheet)", 6 BST1 "The BST pin provides a higher than VIN base drive to the power NPN to ensure a low switch drop. If the voltage between the BST pin and the VIN pin is less than the voltage required to fully turn on the power NPN, the power (See Datasheet)", 7 CMPO1 (oc), 8 CMPI1 (in), 9 FB1 (in) "The FB pin is the negative input to the error amplifier. The output switches to regulate this pin to 806mV with respect to the exposed ground pad. Bias current flows out of the FB pin.", 32 VC1 "The VC pin is the output of the error amplifier and the input to the peak switch current comparator. It is normally used for frequency compensation, but can also be used as a current clamp or control loop override. If the (See Datasheet)", 33 ILIM1 (in), 34 SS1 (in) "Current flowing out the SS pin into an external capacitor defines the rise time of the output voltage. When the SS pin is lower than the 0.806V reference, the feedback is regulated to the SS voltage. When the SS pin exceeds (See Datasheet)", 35 SHDN1 (in), 36 VIN1 (power), 38 SW1 (power) "The SW pin is the emitter of the internal power NPN. At switch off, the inductor will drive this pin below ground with a high dV/dt. An external Schottky catch diode to ground, close to the SW pin and respective VIN (See Datasheet)"
part B pins: 11 FB2 (in) "The FB pin is the negative input to the error amplifier. The output switches to regulate this pin to 806mV with respect to the exposed ground pad. Bias current flows out of the FB pin.", 12 CMPI2 (in), 13 CMPO2 (oc), 14 BST2 "The BST pin provides a higher than VIN base drive to the power NPN to ensure a low switch drop. If the voltage between the BST pin and the VIN pin is less than the voltage required to fully turn on the power NPN, the power (See Datasheet)", 16 VOUT2 (power) "The VOUT pin is the output to the internal sense resistor that measures current flowing in the inductor. When the current in the resistor exceeds the current dictated by the VC pin, the SW latch is held in reset disabling (See Datasheet)", 18 IND2 (in) "The IND pin is the input to the internal sense resistor that measures current flowing in the inductor. When the current in the resistor exceeds the current dictated by the VC pin, the SW latch is held in reset, disabling the (See Datasheet)", 20 SW2 (power) "The SW pin is the emitter of the internal power NPN. At switch off, the inductor will drive this pin below ground with a high dV/dt. An external Schottky catch diode to ground, close to the SW pin and respective VIN (See Datasheet)", 22 VIN2 (power), 23 SHDN2 (in), 24 SS2 (in) "Current flowing out the SS pin into an external capacitor defines the rise time of the output voltage. When the SS pin is lower than the 0.806V reference, the feedback is regulated to the SS voltage. When the SS pin exceeds (See Datasheet)", 25 ILIM2 (in), 26 VC2 "The VC pin is the output of the error amplifier and the input to the peak switch current comparator. It is normally used for frequency compensation, but can also be used as a current clamp or control loop override. If the (See Datasheet)"
part C pins: 27 DIV (in) "The voltage present at the DIV pin determines the ratio of channel 1 frequency to the master clock frequency set by the RT/SYNC pin. The DIV pin is driven by an internal current source with a typical value of 12uA which (See Datasheet)", 28 TJ (out) "The TJ pin outputs a voltage proportional to junction temperature. The pin is 250mV for 25degreesC and has a slope of 10mV/degreesC. See the Applications Information section for more information.", 29 CLKOUT (out) "The CLKOUT pin generates a square wave of 0V to 2.5V which is synchronized to the internal oscillator. If the switching frequency is set by an external resistor the resultant clock duty cycle will be 50%. If the RT/SYNC pin (See Datasheet)", 30 RT/SYNC (in), 39 EP (power) "The exposed pad pin is the only ground connection for the device. The exposed pad should be soldered to a large copper area to reduce thermal resistance. The GND pin is common to both channels and also serves as small-signal (See Datasheet)"
part D pins: 1 NC, 3 NC, 5 NC, 10 NC, 15 NC, 17 NC, 19 NC, 21 NC, 31 NC, 37 NC

## LT3992EFE#TRPBF
designator U?
Monolithic Dual Tracking 3 A Step-Down Switching Regulator, 38-pin SOP (FE-38-EPV-AA), -40 to 125 degC, Pb-Free, Tape and Reel; Manufacturer: Linear Technology; PartNumber: LT3992EFE#TRPBF; Frequency Adjust Range: 250kHz - 2MHz; Number of Outputs: 2; DatasheetVersion: Rev. A; PackageVersion: Rev. C, 09/2010; PackageReference: FE-38; PackageDescription: 38-Pin Plastic TSSOP, Body 9.7 x 4.4 mm, Pitch 0.5 mm; Supplier 1: Digi-Key; Supplier Part Number 1: LT3992EFE#TRPBF-ND; Supplier 2: Newark; Supplier Part Number 2: 87T9246; Packing: Tape and Reel; RoHS: TRUE; Mounting Technology: Surface Mount; ComponentLink1Description: Manufacturer URL; ComponentLink1URL: http://www.linear.com/; ComponentLink2Description: Datasheet; ComponentLink2URL: http://cds.linear.com/docs/en/datasheet/3992fa.pdf; ComponentLink3Description: Package Specification; ComponentLink3URL: http://cds.linear.com/docs/en/packaging/TSSOP_38_05-08-1772.pdf
footprint LT-FE-38-EPV-AA_N (SOP, 38-Leads, Body 9.8x4.5mm, Pitch 0.5mm, Thermal Pad 4.75x2.74mm, IPC Medium Density)
footprint LT-FE-38-EPV-AA_L (SOP, 38-Leads, Body 9.8x4.5mm, Pitch 0.5mm, Thermal Pad 4.75x2.74mm, IPC High Density)
footprint LT-FE-38-EPV-AA_M (SOP, 38-Leads, Body 9.8x4.5mm, Pitch 0.5mm, Thermal Pad 4.75x2.74mm, IPC Low Density)
part A pins: 2 IND1 (in) "The IND pin is the input to the internal sense resistor that measures current flowing in the inductor. When the current in the resistor exceeds the current dictated by the VC pin, the SW latch is held in reset, disabling the (See Datasheet)", 4 VOUT1 (power) "The VOUT pin is the output to the internal sense resistor that measures current flowing in the inductor. When the current in the resistor exceeds the current dictated by the VC pin, the SW latch is held in reset disabling (See Datasheet)", 6 BST1 "The BST pin provides a higher than VIN base drive to the power NPN to ensure a low switch drop. If the voltage between the BST pin and the VIN pin is less than the voltage required to fully turn on the power NPN, the power (See Datasheet)", 7 CMPO1 (oc), 8 CMPI1 (in), 9 FB1 (in) "The FB pin is the negative input to the error amplifier. The output switches to regulate this pin to 806mV with respect to the exposed ground pad. Bias current flows out of the FB pin.", 32 VC1 "The VC pin is the output of the error amplifier and the input to the peak switch current comparator. It is normally used for frequency compensation, but can also be used as a current clamp or control loop override. If the (See Datasheet)", 33 ILIM1 (in), 34 SS1 (in) "Current flowing out the SS pin into an external capacitor defines the rise time of the output voltage. When the SS pin is lower than the 0.806V reference, the feedback is regulated to the SS voltage. When the SS pin exceeds (See Datasheet)", 35 SHDN1 (in), 36 VIN1 (power), 38 SW1 (power) "The SW pin is the emitter of the internal power NPN. At switch off, the inductor will drive this pin below ground with a high dV/dt. An external Schottky catch diode to ground, close to the SW pin and respective VIN (See Datasheet)"
part B pins: 11 FB2 (in) "The FB pin is the negative input to the error amplifier. The output switches to regulate this pin to 806mV with respect to the exposed ground pad. Bias current flows out of the FB pin.", 12 CMPI2 (in), 13 CMPO2 (oc), 14 BST2 "The BST pin provides a higher than VIN base drive to the power NPN to ensure a low switch drop. If the voltage between the BST pin and the VIN pin is less than the voltage required to fully turn on the power NPN, the power (See Datasheet)", 16 VOUT2 (power) "The VOUT pin is the output to the internal sense resistor that measures current flowing in the inductor. When the current in the resistor exceeds the current dictated by the VC pin, the SW latch is held in reset disabling (See Datasheet)", 18 IND2 (in) "The IND pin is the input to the internal sense resistor that measures current flowing in the inductor. When the current in the resistor exceeds the current dictated by the VC pin, the SW latch is held in reset, disabling the (See Datasheet)", 20 SW2 (power) "The SW pin is the emitter of the internal power NPN. At switch off, the inductor will drive this pin below ground with a high dV/dt. An external Schottky catch diode to ground, close to the SW pin and respective VIN (See Datasheet)", 22 VIN2 (power), 23 SHDN2 (in), 24 SS2 (in) "Current flowing out the SS pin into an external capacitor defines the rise time of the output voltage. When the SS pin is lower than the 0.806V reference, the feedback is regulated to the SS voltage. When the SS pin exceeds (See Datasheet)", 25 ILIM2 (in), 26 VC2 "The VC pin is the output of the error amplifier and the input to the peak switch current comparator. It is normally used for frequency compensation, but can also be used as a current clamp or control loop override. If the (See Datasheet)"
part C pins: 27 DIV (in) "The voltage present at the DIV pin determines the ratio of channel 1 frequency to the master clock frequency set by the RT/SYNC pin. The DIV pin is driven by an internal current source with a typical value of 12uA which (See Datasheet)", 28 TJ (out) "The TJ pin outputs a voltage proportional to junction temperature. The pin is 250mV for 25degreesC and has a slope of 10mV/degreesC. See the Applications Information section for more information.", 29 CLKOUT (out) "The CLKOUT pin generates a square wave of 0V to 2.5V which is synchronized to the internal oscillator. If the switching frequency is set by an external resistor the resultant clock duty cycle will be 50%. If the RT/SYNC pin (See Datasheet)", 30 RT/SYNC (in), 39 EP (power) "The exposed pad pin is the only ground connection for the device. The exposed pad should be soldered to a large copper area to reduce thermal resistance. The GND pin is common to both channels and also serves as small-signal (See Datasheet)"
part D pins: 1 NC, 3 NC, 5 NC, 10 NC, 15 NC, 17 NC, 19 NC, 21 NC, 31 NC, 37 NC